# Altium footprint library 3wRes.PcbLib: 1 footprints
Each footprint in its own frame and in the unit in brackets; x right, y up, seen from the top. Pads: shape width x height; smd on the part's side, far side on the other; paste and mask are expansions set on the pad; w line width, h text height; cw(c..) or ccw(c..) is an arc to the next point about the centre after c.
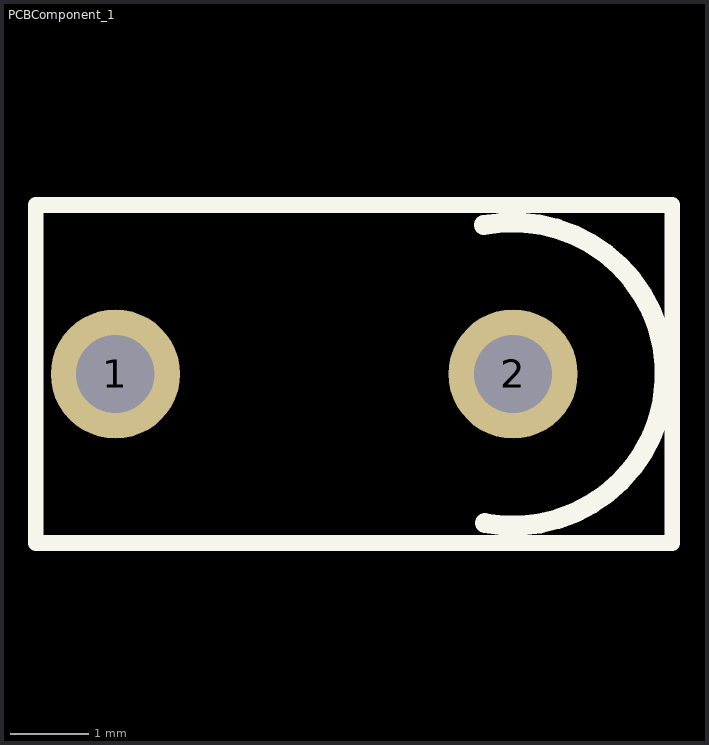
[diagram p0: the footprint, top view; thin cyan lines are the x and y axes]

## PCBComponent_1 [mm]
pads (2):
  round 1.65 hole 1: 1(5.461,5.461) 2(10.541,5.461)
Top Overlay:
  lines w0.2: 4.445,3.302 12.573,3.302 12.573,7.62 4.445,7.62 4.445,3.302
  lines w0.254: 10.166,7.363 cw(c10.541,5.461) 10.182,3.556
3D body "PMFLR - PR02  - 100r - 2w.STEP": height 13.38, standoff -4, extent 5.187,3.461 12.541,7.461